# Altium schematic symbol library Buttons.SchLib: 2 symbols
Pins are listed as number, name and electrical type; pins without a type are passive.

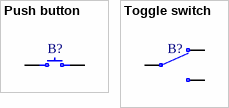
[diagram p0: symbols Push button to Toggle switch]

## Push button
designator B?, comment Button  (value not drawn)
footprint SMD push button
footprint Push button
pins: 1, 2

## Toggle switch
designator B?
footprint Toggle switch
pins: 1, 2, 3